# Altium schematic symbol library fgr_modules.SchLib: 1 symbol
Pins are listed as number, name and electrical type; pins without a type are passive.

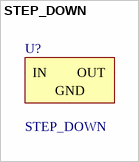
[diagram p0: symbol STEP_DOWN]

## STEP_DOWN
designator U?
footprint STEP DOWN 20180903 2150
pins: 1 IN (power), 2 GND (power), 3 OUT (power)